# Altium footprint library Footprint_SMT_Switches.PcbLib: 4 footprints
Each footprint in its own frame and in the unit in brackets; x right, y up, seen from the top. Pads: shape width x height; smd on the part's side, far side on the other; paste and mask are expansions set on the pad; w line width, h text height; cw(c..) or ccw(c..) is an arc to the next point about the centre after c.
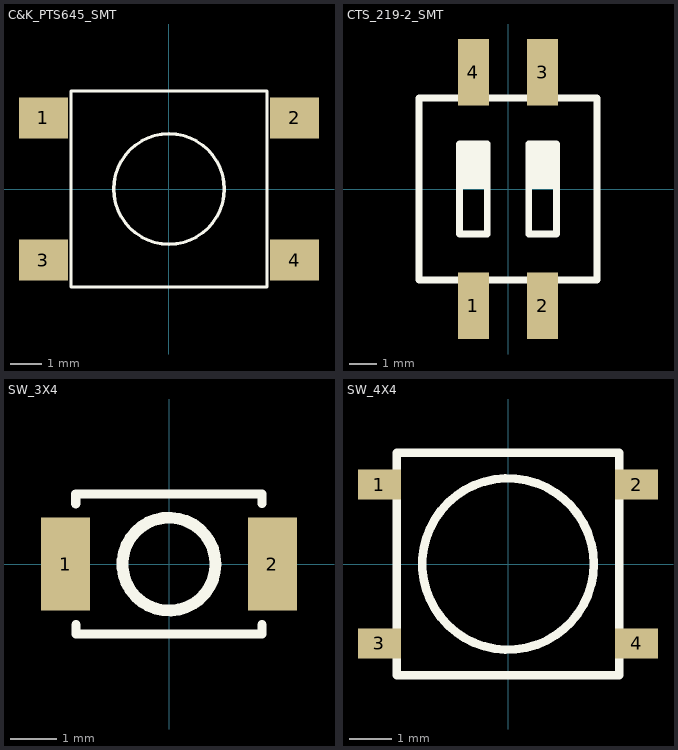
[diagram p0: the footprints below, top view; thin cyan lines are the x and y axes]

## C&K_PTS645_SMT [mm] "C&K PTS645 6mm x 6mm Tact Switch"
pads (4):
  rect 1.55x1.3 smd: 1(-3.975,2.25) 2(3.975,2.25) 3(-3.975,-2.25) 4(3.975,-2.25)
Top Overlay:
  circle w0.1: c0,0 r1.75
  lines w0.1: -3.1,-3.1 3.1,-3.1 3.1,3.1 -3.1,3.1 -3.1,-3.1

## CTS_219-2_SMT [mm] "CTS 219 Series 2 Positions Surafece Mount"
pads (4):
  rect 1.13x2.44 smd: 1(-1.27,-4.3) 2(1.27,-4.3) 3(1.27,4.3) 4(-1.27,4.3)
Top Overlay:
  rectangle: -1.778,0 -0.762,1.651
  rectangle: 0.762,0 1.778,1.651
  lines w0.254: -3.275,-3.35 3.275,-3.35 3.275,3.35 -3.275,3.35 -3.275,-3.35 ; -1.778,-1.651 -0.762,-1.651 -0.762,1.651 -1.778,1.651 -1.778,-1.651 ; 0.762,-1.651 1.778,-1.651 1.778,1.651 0.762,1.651 0.762,-1.651

## SW_3X4 [mm]
pads (2):
  rect 1.05x2 smd: 1(-2.225,0) 2(2.225,0)
Top Overlay:
  circle w0.254: c0,0 r1
  lines w0.2: -2.002,1.3 -2.002,1.506 1.998,1.506 1.998,1.304 ; -2,-1.302 -2,-1.5 2,-1.5 2,-1.302

## SW_4X4 [mm] "4.00mm x 4.00mm"
pads (4):
  rect 1x0.7 smd: 1(-3,1.85) 2(3,1.85) 3(-3,-1.85) 4(3,-1.85)
Top Overlay:
  circle w0.2: c0,0 r2
  lines w0.2: -2.6,-2.6 -2.6,2.6 2.6,2.6 2.6,-2.6 -2.6,-2.6